# Altium footprint library UQFN-16 .PcbLib: 1 footprints
Each footprint in its own frame and in the unit in brackets; x right, y up, seen from the top. Pads: shape width x height; smd on the part's side, far side on the other; paste and mask are expansions set on the pad; w line width, h text height; cw(c..) or ccw(c..) is an arc to the next point about the centre after c.
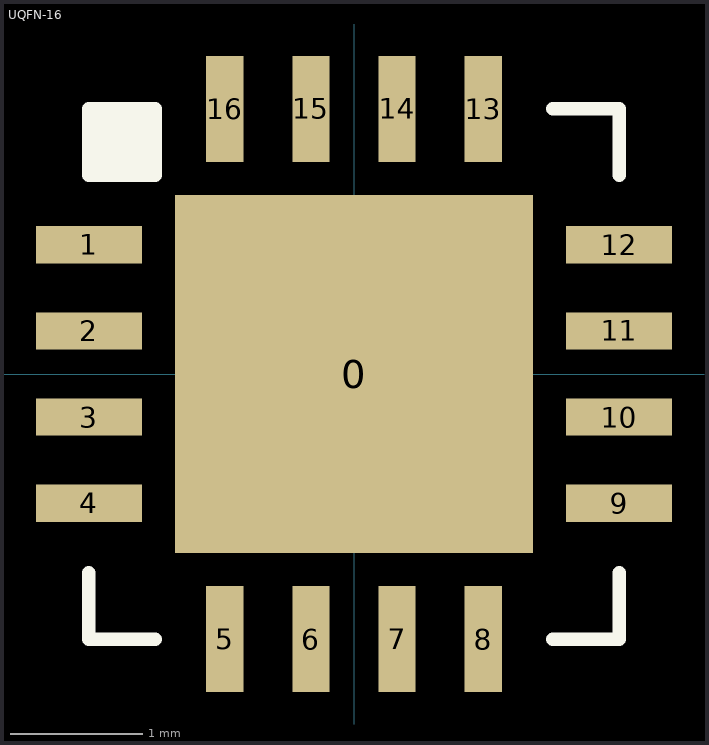
[diagram p0: the footprint, top view; thin cyan lines are the x and y axes]

## UQFN-16 [mm]
pads (17):
  rect 2.7x2.7 smd: 0(0,0)
  rect 0.8x0.28 smd: 1(-2,0.975) 2(-2,0.325) 3(-2,-0.325) 4(-2,-0.975) 9(2,-0.975) 10(2,-0.325) 11(2,0.325) 12(2,0.975)
  rect 0.28x0.8 smd: 5(-0.975,-2) 6(-0.325,-2) 7(0.325,-2) 8(0.975,-2) 13(0.975,2) 14(0.325,2) 15(-0.325,2) 16(-0.975,2)
Top Overlay:
  rectangle: -2,1.5 -1.5,2
  lines w0.1: -2,-1.5 -2,-2 -1.5,-2 ; 1.5,-2 2,-2 2,-1.5 ; 1.5,2 2,2 2,1.5 ; -2,1.5 -2,2 -1.5,2 -1.5,1.5 -2,1.5
3D body: height 1, standoff 0, extent -2.002,-2.002 2.002,2.002